# EAGLE library part MT48LC64M8A2 (library motorFeedback)
Micron 8bit SDRAM
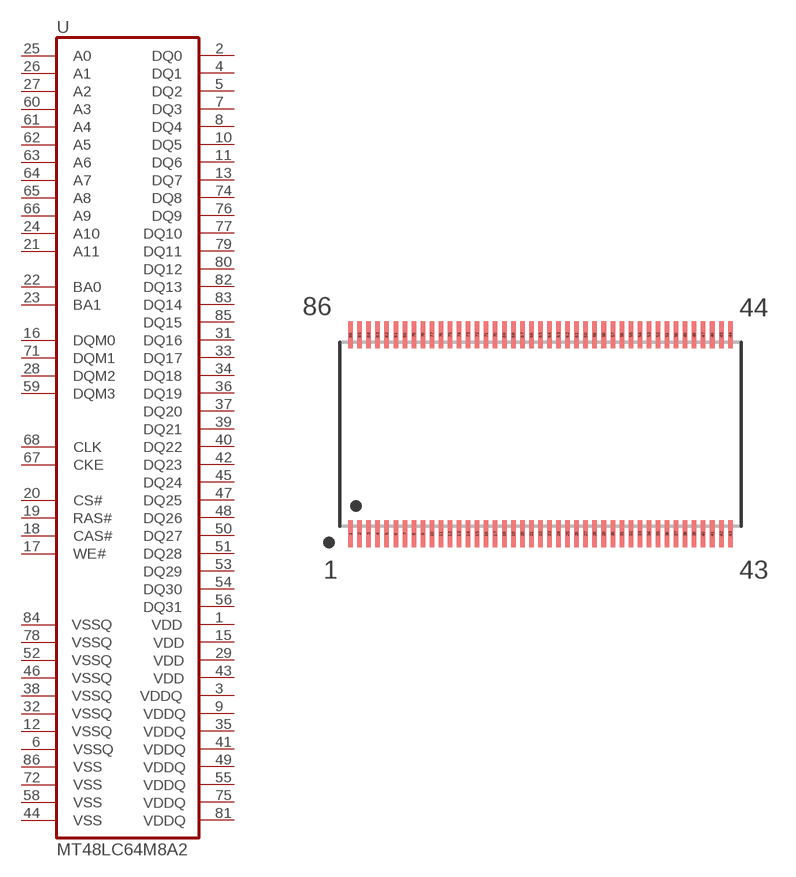
[diagram p2: symbol with the pads of TSOP86; footprint TSOP86]

Designator prefix U

## MT48LC64M8A2SDRAM(4MX32)  [TSOP86]
1  VDD  pwr
2  DQ0
3  VDDQ  pwr
4  DQ1
5  DQ2
6  VSSQ  pwr
7  DQ3
8  DQ4
9  VDDQ  pwr
10  DQ5
11  DQ6
12  VSSQ  pwr
13  DQ7
15  VDD  pwr
16  DQM0  in
17  WE#  in
18  CAS#  in
19  RAS#  in
20  CS#  in
21  A11  in
22  BA0  in
23  BA1  in
24  A10  in
25  A0  in
26  A1  in
27  A2  in
28  DQM2
29  VDD  pwr
31  DQ16
32  VSSQ  pwr
33  DQ17
34  DQ18
35  VDDQ  pwr
36  DQ19
37  DQ20
38  VSSQ  pwr
39  DQ21
40  DQ22
41  VDDQ  pwr
42  DQ23
43  VDD  pwr
44  VSS  pwr
45  DQ24
46  VSSQ  pwr
47  DQ25
48  DQ26
49  VDDQ  pwr
50  DQ27
51  DQ28
52  VSSQ  pwr
53  DQ29
54  DQ30
55  VDDQ  pwr
56  DQ31
58  VSS  pwr
59  DQM3
60  A3  in
61  A4  in
62  A5  in
63  A6  in
64  A7  in
65  A8  in
66  A9  in
67  CKE  in
68  CLK  in
71  DQM1  in
72  VSS  pwr
74  DQ8
75  VDDQ  pwr
76  DQ9
77  DQ10
78  VSSQ  pwr
79  DQ11
80  DQ12
81  VDDQ  pwr
82  DQ13
83  DQ14
84  VSSQ  pwr
85  DQ15
86  VSS  pwr

## Footprint TSOP86 (pad centres in mm)
TSOP 54 Pin, pitch 0.8 mm
smd 0.25 x 1.5: 1 -10.5,-5.5; 2 -10,-5.5; 3 -9.5,-5.5; 4 -9,-5.5; 5 -8.5,-5.5; 6 -8,-5.5; 7 -7.5,-5.5; 8 -7,-5.5; 9 -6.5,-5.5; 10 -6,-5.5; 11 -5.5,-5.5; 12 -5,-5.5; 13 -4.5,-5.5; 14 -4,-5.5; 15 -3.5,-5.5; 16 -3,-5.5; 17 -2.5,-5.5; 18 -2,-5.5; 19 -1.5,-5.5; 20 -1,-5.5; 21 -0.5,-5.5; 22 0,-5.5; 23 0.5,-5.5; 24 1,-5.5; 25 1.5,-5.5; 26 2,-5.5; 27 2.5,-5.5; 28 3,-5.5; 29 3.5,-5.5; 30 4,-5.5; 31 4.5,-5.5; 32 5,-5.5; 33 5.5,-5.5; 34 6,-5.5; 35 6.5,-5.5; 36 7,-5.5; 37 7.5,-5.5; 38 8,-5.5; 39 8.5,-5.5; 40 9,-5.5; 41 9.5,-5.5; 42 10,-5.5; 43 10.5,-5.5; 44 10.5,5.5; 45 10,5.5; 46 9.5,5.5; 47 9,5.5; 48 8.5,5.5; 49 8,5.5; 50 7.5,5.5; 51 7,5.5; 52 6.5,5.5; 53 6,5.5; 54 5.5,5.5; 55 5,5.5; 56 4.5,5.5; 57 4,5.5; 58 3.5,5.5; 59 3,5.5; 60 2.5,5.5; 61 2,5.5; 62 1.5,5.5; 63 1,5.5; 64 0.5,5.5; 65 0,5.5; 66 -0.5,5.5; 67 -1,5.5; 68 -1.5,5.5; 69 -2,5.5; 70 -2.5,5.5; 71 -3,5.5; 72 -3.5,5.5; 73 -4,5.5; 74 -4.5,5.5; 75 -5,5.5; 76 -5.5,5.5; 77 -6,5.5; 78 -6.5,5.5; 79 -7,5.5; 80 -7.5,5.5; 81 -8,5.5; 82 -8.5,5.5; 83 -9,5.5; 84 -9.5,5.5; 85 -10,5.5; 86 -10.5,5.5